# Altium schematic symbol library 4x tmc5160.SchLib: 5 symbols
Pins are listed as number, name and electrical type; pins without a type are passive.

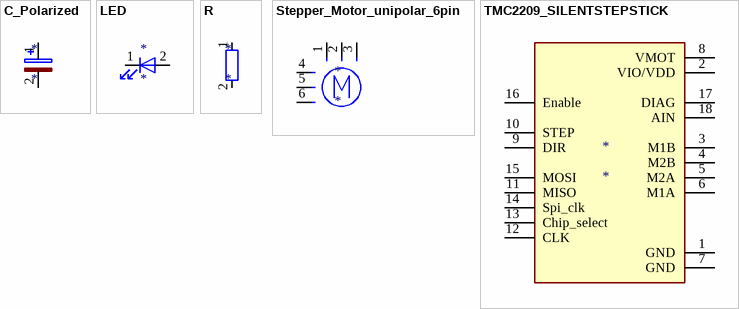
[diagram p0: symbols C_Polarized to TMC2209_SILENTSTEPSTICK]

## C_Polarized
designator *
pins: 1, 2

## LED
designator *
pins: 1 K, 2 A

## R
designator *
pins: 1, 2

## Stepper_Motor_unipolar_6pin
designator *
pins: 1, 2, 3 -, 4, 5, 6

## TMC2209_SILENTSTEPSTICK
designator *
pins: 1 GND, 2 VIO/VDD, 3 M1B, 4 M2B, 5 M2A, 6 M1A, 7 GND, 8 VMOT, 9 DIR, 10 STEP, 11 MISO, 12 CLK, 13 Chip_select, 14 Spi_clk, 15 MOSI, 16 Enable, 17 DIAG, 18 AIN